# Altium integrated library traco-electronic.IntLib: 12 symbols
Pins are listed as number, name and electrical type; pins without a type are passive.

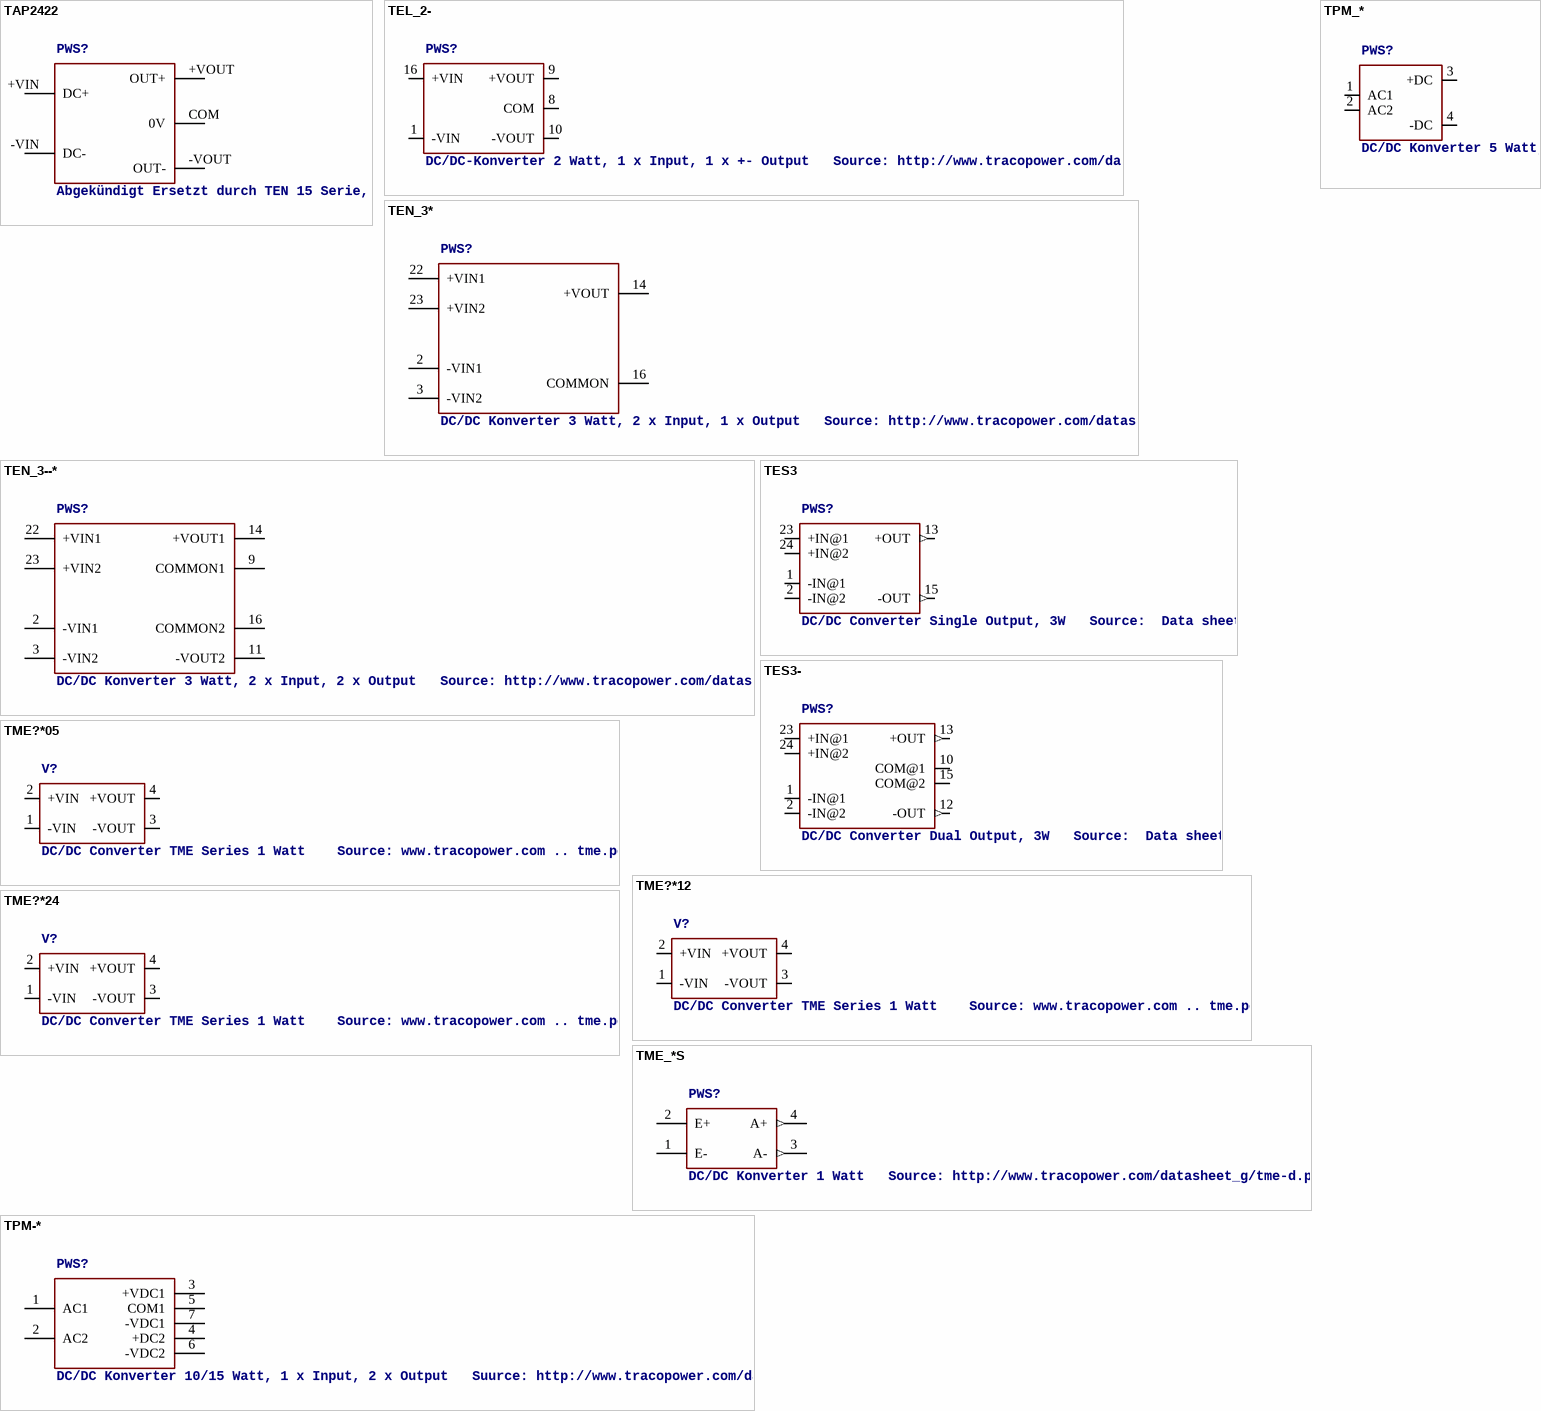
[diagram p0: symbols TAP2422 to TPM_*]

## TAP2422
designator PWS?, comment Abgekündigt Ersetzt durch TEN 15 Serie,
OC_FARNELL: unknown; OC_NEWARK: unknown
footprint TAP2422
pins: +VIN DC+, +VOUT OUT+, -VIN DC-, -VOUT OUT-, COM 0V

## TEL_2-
designator PWS?, comment DC/DC-Konverter 2 Watt, 1 x Input, 1 x +- Output   Source: http://www.tracopower.com/datasheet_g/tel2-d.pdf
MPN: TEL 2-0521; MPN: TEL 2-0522; MPN: TEL 2-0523; MPN: TEL 2-1221; MPN: TEL 2-1222; MPN: TEL 2-1223; MPN: TEL 2-2421; MPN: TEL 2-2422; MPN: TEL 2-2423; MPN: TEL 2-4821; MPN: TEL 2-4822; MPN: TEL 2-4823; OC_FARNELL: 1007027; OC_NEWARK: 51R4755; OC_FARNELL: 1007028; OC_NEWARK: 51R4756; OC_FARNELL: 1007029; OC_NEWARK: 51R4757; OC_FARNELL: 1007032; OC_NEWARK: 51R4760; OC_FARNELL: 1007033; OC_NEWARK: 51R4761; OC_FARNELL: 1007034; OC_NEWARK: 51R4762; OC_FARNELL: 1007039; OC_NEWARK: 51R4765; OC_FARNELL: 1007041; OC_NEWARK: 51R4766; OC_FARNELL: 1007042; OC_NEWARK: 51R4767; OC_FARNELL: 1007045; OC_NEWARK: 51R4770; OC_FARNELL: 1007046; OC_NEWARK: 51R4771; OC_FARNELL: 1007047; OC_NEWARK: 51R4772
footprint TRACOPOWER2W
pins: 1 -VIN, 8 COM, 9 +VOUT, 10 -VOUT, 16 +VIN

## TEN_3*
designator PWS?, comment DC/DC Konverter 3 Watt, 2 x Input, 1 x Output   Source: http://www.tracopower.com/datasheet_g/ten3-d.pdf
MPN: TEN3-2411; MPN: TEN3-2413; MPN: TEN 3-4811WI; OC_FARNELL: unknown; OC_NEWARK: unknown; OC_NEWARK: 45K1582; OC_NEWARK: 14N5516; OC_NEWARK: 90R9814
footprint TEN3XXXX
pins: 2 -VIN1, 3 -VIN2, 14 +VOUT, 16 COMMON, 22 +VIN1, 23 +VIN2

## TEN_3--*
designator PWS?, comment DC/DC Konverter 3 Watt, 2 x Input, 2 x Output   Source: http://www.tracopower.com/datasheet_g/ten3-d.pdf
MPN: TEN 3-0522; MPN: TEN31221; MPN: TEN 3-2422WI; MPN: TEN3-2423; OC_FARNELL: unknown; OC_NEWARK: unknown; OC_NEWARK: 91R2128; OC_NEWARK: 60R5780; OC_NEWARK: 78R5872; OC_NEWARK: 72J5373
footprint TEN3XXXX
pins: 2 -VIN1, 3 -VIN2, 9 COMMON1, 11 -VOUT2, 14 +VOUT1, 16 COMMON2, 22 +VIN1, 23 +VIN2

## TES3
designator PWS?, comment DC/DC Converter Single Output, 3W   Source:  Data sheet
footprint TES3
pins: 1 -IN@1, 2 -IN@2, 13 +OUT (out), 15 -OUT (out), 23 +IN@1, 24 +IN@2

## TES3-
designator PWS?, comment DC/DC Converter Dual Output, 3W   Source:  Data sheet
footprint TES3
pins: 1 -IN@1, 2 -IN@2, 10 COM@1, 12 -OUT (out), 13 +OUT (out), 15 COM@2, 23 +IN@1, 24 +IN@2

## TME?*05
designator V?, comment DC/DC Converter TME Series 1 Watt    Source: www.tracopower.com .. tme.pdf
MPN: TME 0505S; MPN: TME 0509S; MPN: TME 0512S; MPN: TME 0515S; OC_FARNELL: 1007538; OC_NEWARK: 51R5321; OC_FARNELL: 1007539; OC_NEWARK: 51R5322; OC_FARNELL: 1007540; OC_NEWARK: 51R5323; OC_FARNELL: 1007541; OC_NEWARK: 51R5324
footprint TME
pins: 1 -VIN, 2 +VIN, 3 -VOUT, 4 +VOUT

## TME?*12
designator V?, comment DC/DC Converter TME Series 1 Watt    Source: www.tracopower.com .. tme.pdf
MPN: TME 1205S; MPN: TME 1209S; MPN: TME 1212S; MPN: TME 1215S; OC_FARNELL: 1007542; OC_NEWARK: 51R5325; OC_FARNELL: 1007544; OC_NEWARK: 51R5326; OC_FARNELL: 1007545; OC_NEWARK: 51R5327; OC_FARNELL: 1007546; OC_NEWARK: 51R5328
footprint TME
pins: 1 -VIN, 2 +VIN, 3 -VOUT, 4 +VOUT

## TME?*24
designator V?, comment DC/DC Converter TME Series 1 Watt    Source: www.tracopower.com .. tme.pdf
MPN: TME 2405S; MPN: TME 2409S; MPN: TME 2412S; MPN: TME 2415S; OC_FARNELL: 1007547; OC_NEWARK: 51R5329; OC_FARNELL: 1007548; OC_NEWARK: 51R5330; OC_FARNELL: 1007549; OC_NEWARK: 51R5331; OC_FARNELL: 1007550; OC_NEWARK: 51R5332
footprint TME-24V
pins: 1 -VIN, 2 +VIN, 3 -VOUT, 4 +VOUT

## TME_*S
designator PWS?, comment DC/DC Konverter 1 Watt   Source: http://www.tracopower.com/datasheet_g/tme-d.pdf
MPN: TME 0505S; MPN: TME 0509S; MPN: TME 0512S; MPN: TME 0515S; MPN: TME 1205S; MPN: TME 1209S; MPN: TME 1212S; MPN: TME 1215S; MPN: TME 2405S; MPN: TME 2409S; MPN: TME 2412S; MPN: TME 2415S; OC_FARNELL: 1007538; OC_NEWARK: 51R5321; OC_FARNELL: 1007539; OC_NEWARK: 51R5322; OC_FARNELL: 1007540; OC_NEWARK: 51R5323; OC_FARNELL: 1007541; OC_NEWARK: 51R5324; OC_FARNELL: 1007542; OC_NEWARK: 51R5325; OC_FARNELL: 1007544; OC_NEWARK: 51R5326; OC_FARNELL: 1007545; OC_NEWARK: 51R5327; OC_FARNELL: 1007546; OC_NEWARK: 51R5328; OC_FARNELL: 1007547; OC_NEWARK: 51R5329; OC_FARNELL: 1007548; OC_NEWARK: 51R5330; OC_FARNELL: 1007549; OC_NEWARK: 51R5331; OC_FARNELL: 1007550; OC_NEWARK: 51R5332
footprint TMEXXXXS
pins: 1 E-, 2 E+, 3 A- (out), 4 A+ (out)

## TPM-*
designator PWS?, comment DC/DC Konverter 10/15 Watt, 1 x Input, 2 x Output   Suurce: http://www.tracopower.com/datasheet_g/tpm-d.pdf
OC_FARNELL: unknown; OC_NEWARK: unknown
footprint 10515
pins: 1 AC1, 2 AC2, 3 +VDC1, 4 +DC2, 5 COM1, 6 -VDC2, 7 -VDC1

## TPM_*
designator PWS?, comment DC/DC Konverter 5 Watt, 1 x Input, 1 x Output   Source: http://www.tracopower.com/datasheet_g/tpm-d.pdf
OC_FARNELL: unknown; OC_NEWARK: unknown
footprint 05105
pins: 1 AC1, 2 AC2, 3 +DC, 4 -DC